# Altium footprint library SOP127P950X198-16L.PcbLib: 1 footprints
Each footprint in its own frame and in the unit in brackets; x right, y up, seen from the top. Pads: shape width x height; smd on the part's side, far side on the other; paste and mask are expansions set on the pad; w line width, h text height; cw(c..) or ccw(c..) is an arc to the next point about the centre after c.
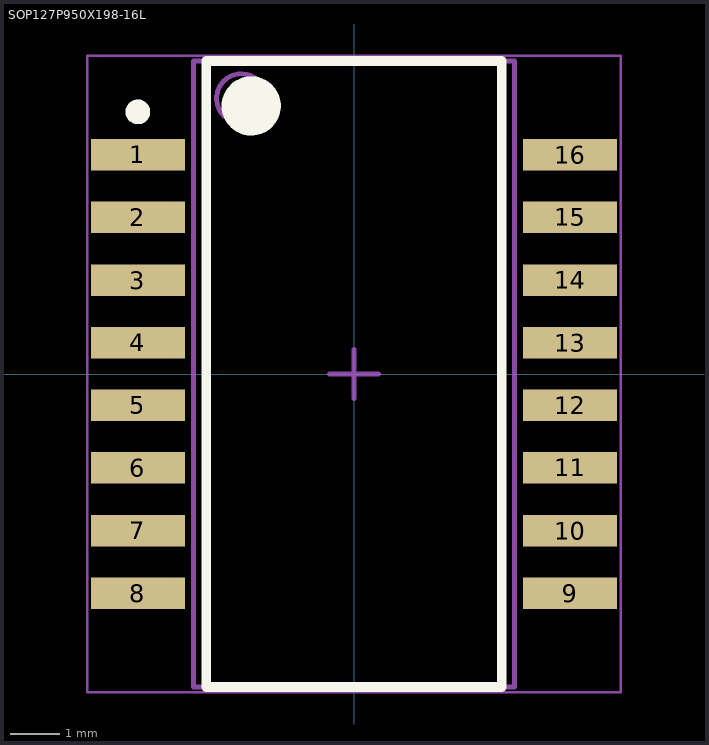
[diagram p0: the footprint, top view; thin cyan lines are the x and y axes]

## SOP127P950X198-16L [mm] "SOP, 16-Leads, Body 12.70x7.11mm, Pitch 1.27mm, IPC High Density"
height 1.98
pads (16):
  rect 1.905x0.64 smd: 1(-4.383,4.445) 2(-4.383,3.175) 3(-4.383,1.905) 4(-4.383,0.635) 5(-4.383,-0.635) 6(-4.383,-1.905) 7(-4.383,-3.175) 8(-4.383,-4.445) 9(4.382,-4.445) 10(4.382,-3.175) 11(4.382,-1.905) 12(4.382,-0.635) 13(4.382,0.635) 14(4.382,1.905) 15(4.382,3.175) 16(4.382,4.445)
Top Overlay:
  circle w0.6: c-2.083,5.436 r0.3
  circle w0.25: c-4.383,5.315 r0.125
  lines w0.2: -2.997,-6.35 -2.997,6.35 2.997,6.35 2.997,-6.35 -2.997,-6.35
Mechanical 13:
  circle w0.1: c-2.286,5.588 r0.5
  lines w0.1: -3.251,-6.35 3.251,-6.35 3.251,6.35 -3.251,6.35 -3.251,-6.35
Mechanical 15:
  lines w0.05: -5.41,-6.452 5.41,-6.452 5.41,6.452 -5.41,6.452 -5.41,-6.452
  lines w0.1: -0.5,0 0.5,0 ; 0,-0.5 0,0.5
3D body: height 2.23, standoff -0.01, extent -4.85,-6.325 4.8,6.375